# Altium footprint library 2020-01-26_02-48-38.PcbLib: 3 footprints
Each footprint in its own frame and in the unit in brackets; x right, y up, seen from the top. Pads: shape width x height; smd on the part's side, far side on the other; paste and mask are expansions set on the pad; w line width, h text height; cw(c..) or ccw(c..) is an arc to the next point about the centre after c.
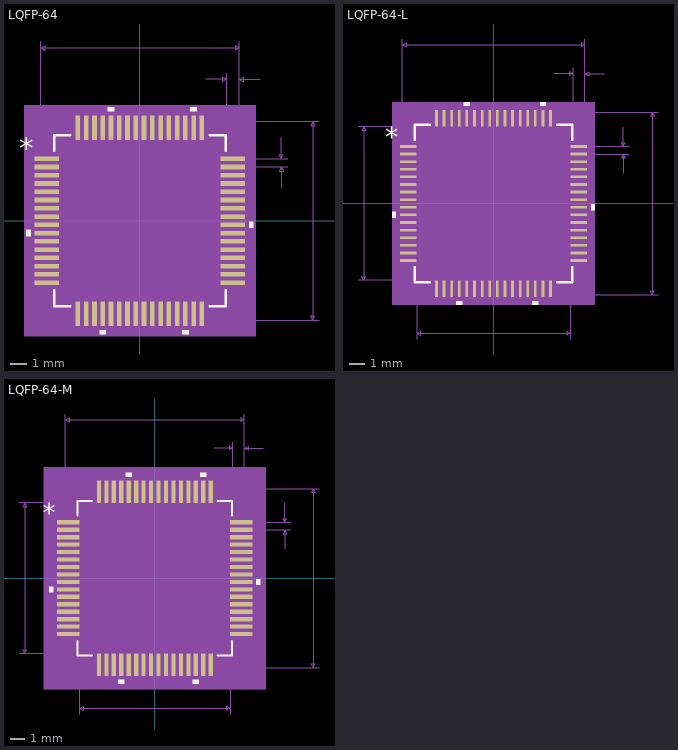
[diagram p0: the footprints below, top view; thin cyan lines are the x and y axes]

## LQFP-64 [mil]
pads (64):
  rect 58x11 smd: 1(-221.5,147.64) 2(-221.5,127.95) 3(-221.5,108.27) 4(-221.5,88.58) 5(-221.5,68.9) 6(-221.5,49.21) 7(-221.5,29.53) 8(-221.5,9.84) 9(-221.5,-9.84) 10(-221.5,-29.53) 11(-221.5,-49.21) 12(-221.5,-68.9) 13(-221.5,-88.58) 14(-221.5,-108.27) 15(-221.5,-127.95) 16(-221.5,-147.64) 33(221.5,-147.64) 34(221.5,-127.95) 35(221.5,-108.27) 36(221.5,-88.58) 37(221.5,-68.9) 38(221.5,-49.21) 39(221.5,-29.53) 40(221.5,-9.84) 41(221.5,9.84) 42(221.5,29.53) 43(221.5,49.21) 44(221.5,68.9) 45(221.5,88.58) 46(221.5,108.27) 47(221.5,127.95) 48(221.5,147.64)
  rect 11x58 smd: 17(-147.64,-221.5) 18(-127.95,-221.5) 19(-108.27,-221.5) 20(-88.58,-221.5) 21(-68.9,-221.5) 22(-49.21,-221.5) 23(-29.53,-221.5) 24(-9.84,-221.5) 25(9.84,-221.5) 26(29.53,-221.5) 27(49.21,-221.5) 28(68.9,-221.5) 29(88.58,-221.5) 30(108.27,-221.5) 31(127.95,-221.5) 32(147.64,-221.5) 49(147.64,221.5) 50(127.95,221.5) 51(108.27,221.5) 52(88.58,221.5) 53(68.9,221.5) 54(49.21,221.5) 55(29.53,221.5) 56(9.84,221.5) 57(-9.84,221.5) 58(-29.53,221.5) 59(-49.21,221.5) 60(-68.9,221.5) 61(-88.58,221.5) 62(-108.27,221.5) 63(-127.95,221.5) 64(-147.64,221.5)
Top Overlay:
  region: -260.5,-22.03 -270.5,-22.03 -270.5,-37.03 -260.5,-37.03
  region: -81.08,-260.5 -96.08,-260.5 -96.08,-270.5 -81.08,-270.5
  region: 115.77,-260.5 100.77,-260.5 100.77,-270.5 115.77,-270.5
  region: 260.5,-2.34 270.5,-2.34 270.5,-17.34 260.5,-17.34
  region: 135.45,260.5 120.45,260.5 120.45,270.5 135.45,270.5
  region: -61.4,260.5 -76.4,260.5 -76.4,270.5 -61.4,270.5
  lines w6: -204,-166.24 -204,-204 -166.24,-204 ; -204,166.24 -204,204 -166.24,204 ; 166.24,-204 204,-204 204,-166.24 ; 166.24,204 204,204 204,166.24
  text "*" at -288,147.48 h50
Mechanical 5:
  region: 275.5,-275.5 -275.5,-275.5 -275.5,275.5 275.5,275.5
Mechanical 7:
  lines w1: -236.5,147.64 -236.5,426.5 ; 147.64,-236.5 426.5,-236.5 ; 147.64,236.5 426.5,236.5 ; 156.5,336.5 206.5,336.5 ; 206.5,147.64 206.5,351.5 ; 221.5,127.95 351.5,127.95 ; 221.5,147.64 351.5,147.64 ; 236.5,351.5 236.5,147.64 236.5,426.5 ; 286.5,336.5 236.5,336.5 ; 336.5,77.95 336.5,127.95 ; 336.5,197.64 336.5,147.64 ; -236.5,411.5 236.5,411.5 ; -236.5,411.5 -226.5,416.5 -226.5,406.5 -236.5,411.5 ; 206.5,336.5 196.5,341.5 196.5,331.5 206.5,336.5 ; 236.5,336.5 246.5,341.5 246.5,331.5 236.5,336.5 ; 236.5,411.5 226.5,416.5 226.5,406.5 236.5,411.5 ; 336.5,127.95 331.5,117.95 341.5,117.95 336.5,127.95 ; 336.5,147.64 331.5,157.64 341.5,157.64 336.5,147.64 ; 411.5,-236.5 411.5,236.5 ; 411.5,-236.5 406.5,-226.5 416.5,-226.5 411.5,-236.5 ; 411.5,236.5 406.5,226.5 416.5,226.5 411.5,236.5
  text "Default Horiz Padstyle: RX11Y58D0T" at -425,-486.5 h50
  text "Default Vert Padstyle: RX11Y58D0T" at -412.5,-546.5 h50
  text "Alt 1 Padstyle: OX60Y90D30P" at -337.5,-726.5 h50
  text "Alt 2 Padstyle: OX90Y60D30P" at -337.5,-786.5 h50
  text "0.02in/0.5mm" at 356.5,125.3 h25
  text "0.03in/0.762mm" at 134,356.5 h25
  text "0.473in/12.014mm" at -100,431.5 h25
  text "0.473in/12.014mm" at 431.5,-12.5 h25
Mechanical 13:
  drawing of 265 lines, arcs and shapes, not listed
  text "*" at -196.5,132.48 h50
Mechanical 15:
  region: -167.64,-209 -209,-209 -209,-167.64 -262,-167.64 -262,167.64 -209,167.64 -209,209 -167.64,209 -167.64,262 167.64,262 167.64,209 209,209 209,167.64 262,167.64 262,-167.64 209,-167.64 209,-209 167.64,-209 167.64,-262 -167.64,-262
  lines w6: -262,-167.64 -209,-167.64 -209,-209 -167.64,-209 -167.64,-262 167.64,-262 167.64,-209 209,-209 209,-167.64 262,-167.64 262,167.64 209,167.64 209,209 167.64,209 167.64,262 -167.64,262 -167.64,209 -209,209 -209,167.64 -262,167.64 -262,-167.64
3D body: height 10, standoff 0, extent 0,0 10,10

## LQFP-64-L [mil]
pads (64):
  rect 43.5x7 smd paste+0 mask+0: 1(-220.75,147.64) 2(-220.75,127.95) 3(-220.75,108.27) 4(-220.75,88.58) 5(-220.75,68.9) 6(-220.75,49.21) 7(-220.75,29.53) 8(-220.75,9.84) 9(-220.75,-9.84) 10(-220.75,-29.53) 11(-220.75,-49.21) 12(-220.75,-68.9) 13(-220.75,-88.58) 14(-220.75,-108.27) 15(-220.75,-127.95) 16(-220.75,-147.64) 33(220.75,-147.64) 34(220.75,-127.95) 35(220.75,-108.27) 36(220.75,-88.58) 37(220.75,-68.9) 38(220.75,-49.21) 39(220.75,-29.53) 40(220.75,-9.84) 41(220.75,9.84) 42(220.75,29.53) 43(220.75,49.21) 44(220.75,68.9) 45(220.75,88.58) 46(220.75,108.27) 47(220.75,127.95) 48(220.75,147.64)
  rect 7x43.5 smd paste+0 mask+0: 17(-147.64,-220.75) 18(-127.95,-220.75) 19(-108.27,-220.75) 20(-88.58,-220.75) 21(-68.9,-220.75) 22(-49.21,-220.75) 23(-29.53,-220.75) 24(-9.84,-220.75) 25(9.84,-220.75) 26(29.53,-220.75) 27(49.21,-220.75) 28(68.9,-220.75) 29(88.58,-220.75) 30(108.27,-220.75) 31(127.95,-220.75) 32(147.64,-220.75) 49(147.64,220.75) 50(127.95,220.75) 51(108.27,220.75) 52(88.58,220.75) 53(68.9,220.75) 54(49.21,220.75) 55(29.53,220.75) 56(9.84,220.75) 57(-9.84,220.75) 58(-29.53,220.75) 59(-49.21,220.75) 60(-68.9,220.75) 61(-88.58,220.75) 62(-108.27,220.75) 63(-127.95,220.75) 64(-147.64,220.75)
Top Overlay:
  region: -252.5,-22.03 -262.5,-22.03 -262.5,-37.03 -252.5,-37.03
  region: -81.08,-252.5 -96.08,-252.5 -96.08,-262.5 -81.08,-262.5
  region: 115.77,-252.5 100.77,-252.5 100.77,-262.5 115.77,-262.5
  region: 252.5,-2.34 262.5,-2.34 262.5,-17.34 252.5,-17.34
  region: 135.45,252.5 120.45,252.5 120.45,262.5 135.45,262.5
  region: -61.4,252.5 -76.4,252.5 -76.4,262.5 -61.4,262.5
  lines w6: -204,-164.24 -204,-204 -164.24,-204 ; -204,164.24 -204,204 -164.24,204 ; 164.24,-204 204,-204 204,-164.24 ; 164.24,204 204,204 204,164.24
  text "*" at -280,147.48 h50
Mechanical 5:
  region: 261.5,-261.5 -261.5,-261.5 -261.5,261.5 261.5,261.5
Mechanical 7:
  lines w1: -350.75,-199 -147.64,-199 ; -350.75,199 -147.64,199 ; -236.5,147.64 -236.5,425.75 ; -199,-350.75 -199,-147.64 ; 147.64,-236.5 425.75,-236.5 ; 147.64,236.5 425.75,236.5 ; 156.5,335.75 206.5,335.75 ; 199,-350.75 199,-147.64 ; 206.5,147.64 206.5,350.75 ; 220.75,127.95 350.75,127.95 ; 220.75,147.64 350.75,147.64 ; 236.5,350.75 236.5,147.64 236.5,425.75 ; 286.5,335.75 236.5,335.75 ; 335.75,77.95 335.75,127.95 ; 335.75,197.64 335.75,147.64 ; -335.75,-199 -335.75,199 ; -335.75,-199 -340.75,-189 -330.75,-189 -335.75,-199 ; -335.75,199 -340.75,189 -330.75,189 -335.75,199 ; -236.5,410.75 236.5,410.75 ; -236.5,410.75 -226.5,415.75 -226.5,405.75 -236.5,410.75 ; -199,-335.75 199,-335.75 ; -199,-335.75 -189,-330.75 -189,-340.75 -199,-335.75 ; 199,-335.75 189,-330.75 189,-340.75 199,-335.75 ; 206.5,335.75 196.5,340.75 196.5,330.75 206.5,335.75 ; 236.5,335.75 246.5,340.75 246.5,330.75 236.5,335.75 ; 236.5,410.75 226.5,415.75 226.5,405.75 236.5,410.75 ; 335.75,127.95 330.75,117.95 340.75,117.95 335.75,127.95 ; 335.75,147.64 330.75,157.64 340.75,157.64 335.75,147.64 ; 410.75,-236.5 410.75,236.5 ; 410.75,-236.5 405.75,-226.5 415.75,-226.5 410.75,-236.5 ; 410.75,236.5 405.75,226.5 415.75,226.5 410.75,236.5
  text "Default Horiz Padstyle: RX7Y43p5D0T" at -437.5,-485.75 h50
  text "Default Vert Padstyle: RX7Y43p5D0T" at -425,-545.75 h50
  text "Alt 1 Padstyle: OX60Y90D30P" at -337.5,-725.75 h50
  text "Alt 2 Padstyle: OX90Y60D30P" at -337.5,-785.75 h50
  text "0.02in/0.5mm" at 355.75,125.3 h25
  text "0.03in/0.762mm" at 134,355.75 h25
  text "0.473in/12.014mm" at -100,430.75 h25
  text "0.398in/10.109mm" at -100,-380.75 h25
  text "0.398in/10.109mm" at -555.75,-12.5 h25
  text "0.473in/12.014mm" at 430.75,-12.5 h25
Mechanical 13:
  drawing of 265 lines, arcs and shapes, not listed
  text "*" at -196.5,132.48 h50
Mechanical 15:
  region: -155.14,-203 -203,-203 -203,-155.14 -246.5,-155.14 -246.5,155.14 -203,155.14 -203,203 -155.14,203 -155.14,246.5 155.14,246.5 155.14,203 203,203 203,155.14 246.5,155.14 246.5,-155.14 203,-155.14 203,-203 155.14,-203 155.14,-246.5 -155.14,-246.5
  lines w6: -246.5,-155.14 -203,-155.14 -203,-203 -155.14,-203 -155.14,-246.5 155.14,-246.5 155.14,-203 203,-203 203,-155.14 246.5,-155.14 246.5,155.14 203,155.14 203,203 155.14,203 155.14,246.5 -155.14,246.5 -155.14,203 -203,203 -203,155.14 -246.5,155.14 -246.5,-155.14
3D body: height 10, standoff 0, extent 0,0 10,10

## LQFP-64-M [mil]
pads (64):
  rect 59.5x11 smd paste+0 mask+0: 1(-228.75,147.64) 2(-228.75,127.95) 3(-228.75,108.27) 4(-228.75,88.58) 5(-228.75,68.9) 6(-228.75,49.21) 7(-228.75,29.53) 8(-228.75,9.84) 9(-228.75,-9.84) 10(-228.75,-29.53) 11(-228.75,-49.21) 12(-228.75,-68.9) 13(-228.75,-88.58) 14(-228.75,-108.27) 15(-228.75,-127.95) 16(-228.75,-147.64) 33(228.75,-147.64) 34(228.75,-127.95) 35(228.75,-108.27) 36(228.75,-88.58) 37(228.75,-68.9) 38(228.75,-49.21) 39(228.75,-29.53) 40(228.75,-9.84) 41(228.75,9.84) 42(228.75,29.53) 43(228.75,49.21) 44(228.75,68.9) 45(228.75,88.58) 46(228.75,108.27) 47(228.75,127.95) 48(228.75,147.64)
  rect 11x59.5 smd paste+0 mask+0: 17(-147.64,-228.75) 18(-127.95,-228.75) 19(-108.27,-228.75) 20(-88.58,-228.75) 21(-68.9,-228.75) 22(-49.21,-228.75) 23(-29.53,-228.75) 24(-9.84,-228.75) 25(9.84,-228.75) 26(29.53,-228.75) 27(49.21,-228.75) 28(68.9,-228.75) 29(88.58,-228.75) 30(108.27,-228.75) 31(127.95,-228.75) 32(147.64,-228.75) 49(147.64,228.75) 50(127.95,228.75) 51(108.27,228.75) 52(88.58,228.75) 53(68.9,228.75) 54(49.21,228.75) 55(29.53,228.75) 56(9.84,228.75) 57(-9.84,228.75) 58(-29.53,228.75) 59(-49.21,228.75) 60(-68.9,228.75) 61(-88.58,228.75) 62(-108.27,228.75) 63(-127.95,228.75) 64(-147.64,228.75)
Top Overlay:
  region: -268.5,-22.03 -278.5,-22.03 -278.5,-37.03 -268.5,-37.03
  region: -81.08,-268.5 -96.08,-268.5 -96.08,-278.5 -81.08,-278.5
  region: 115.77,-268.5 100.77,-268.5 100.77,-278.5 115.77,-278.5
  region: 268.5,-2.34 278.5,-2.34 278.5,-17.34 268.5,-17.34
  region: 135.45,268.5 120.45,268.5 120.45,278.5 135.45,278.5
  region: -61.4,268.5 -76.4,268.5 -76.4,278.5 -61.4,278.5
  lines w6: -204,-166.24 -204,-204 -166.24,-204 ; -204,166.24 -204,204 -166.24,204 ; 166.24,-204 204,-204 204,-166.24 ; 166.24,204 204,204 204,166.24
  text "*" at -296,147.48 h50
Mechanical 5:
  region: 293.5,-293.5 -293.5,-293.5 -293.5,293.5 293.5,293.5
Mechanical 7:
  lines w1: -358.75,-199 -147.64,-199 ; -358.75,199 -147.64,199 ; -236.5,147.64 -236.5,433.75 ; -199,-358.75 -199,-147.64 ; 147.64,-236.5 433.75,-236.5 ; 147.64,236.5 433.75,236.5 ; 156.5,343.75 206.5,343.75 ; 199,-358.75 199,-147.64 ; 206.5,147.64 206.5,358.75 ; 228.75,127.95 358.75,127.95 ; 228.75,147.64 358.75,147.64 ; 236.5,358.75 236.5,147.64 236.5,433.75 ; 286.5,343.75 236.5,343.75 ; 343.75,77.95 343.75,127.95 ; 343.75,197.64 343.75,147.64 ; -343.75,-199 -343.75,199 ; -343.75,-199 -348.75,-189 -338.75,-189 -343.75,-199 ; -343.75,199 -348.75,189 -338.75,189 -343.75,199 ; -236.5,418.75 236.5,418.75 ; -236.5,418.75 -226.5,423.75 -226.5,413.75 -236.5,418.75 ; -199,-343.75 199,-343.75 ; -199,-343.75 -189,-338.75 -189,-348.75 -199,-343.75 ; 199,-343.75 189,-338.75 189,-348.75 199,-343.75 ; 206.5,343.75 196.5,348.75 196.5,338.75 206.5,343.75 ; 236.5,343.75 246.5,348.75 246.5,338.75 236.5,343.75 ; 236.5,418.75 226.5,423.75 226.5,413.75 236.5,418.75 ; 343.75,127.95 338.75,117.95 348.75,117.95 343.75,127.95 ; 343.75,147.64 338.75,157.64 348.75,157.64 343.75,147.64 ; 418.75,-236.5 418.75,236.5 ; 418.75,-236.5 413.75,-226.5 423.75,-226.5 418.75,-236.5 ; 418.75,236.5 413.75,226.5 423.75,226.5 418.75,236.5
  text "Default Horiz Padstyle: RX11Y59p5D0T" at -450,-493.75 h50
  text "Default Vert Padstyle: RX11Y59p5D0T" at -437.5,-553.75 h50
  text "Alt 1 Padstyle: OX60Y90D30P" at -337.5,-733.75 h50
  text "Alt 2 Padstyle: OX90Y60D30P" at -337.5,-793.75 h50
  text "0.02in/0.5mm" at 363.75,125.3 h25
  text "0.03in/0.762mm" at 134,363.75 h25
  text "0.473in/12.014mm" at -100,438.75 h25
  text "0.398in/10.109mm" at -100,-388.75 h25
  text "0.398in/10.109mm" at -563.75,-12.5 h25
  text "0.473in/12.014mm" at 438.75,-12.5 h25
Mechanical 13:
  drawing of 265 lines, arcs and shapes, not listed
  text "*" at -196.5,132.48 h50
Mechanical 15:
  region: -173.14,-219 -219,-219 -219,-173.14 -278.5,-173.14 -278.5,173.14 -219,173.14 -219,219 -173.14,219 -173.14,278.5 173.14,278.5 173.14,219 219,219 219,173.14 278.5,173.14 278.5,-173.14 219,-173.14 219,-219 173.14,-219 173.14,-278.5 -173.14,-278.5
  lines w6: -278.5,-173.14 -219,-173.14 -219,-219 -173.14,-219 -173.14,-278.5 173.14,-278.5 173.14,-219 219,-219 219,-173.14 278.5,-173.14 278.5,173.14 219,173.14 219,219 173.14,219 173.14,278.5 -173.14,278.5 -173.14,219 -219,219 -219,173.14 -278.5,173.14 -278.5,-173.14
3D body: height 10, standoff 0, extent 0,0 10,10